# Altium footprint library MLACHP_P.PCBLIB: 129 footprints (part 5 of 9)
Each footprint in its own frame and in the unit in brackets; x right, y up, seen from the top. Pads: shape width x height; smd on the part's side, far side on the other; paste and mask are expansions set on the pad; w line width, h text height; cw(c..) or ccw(c..) is an arc to the next point about the centre after c.
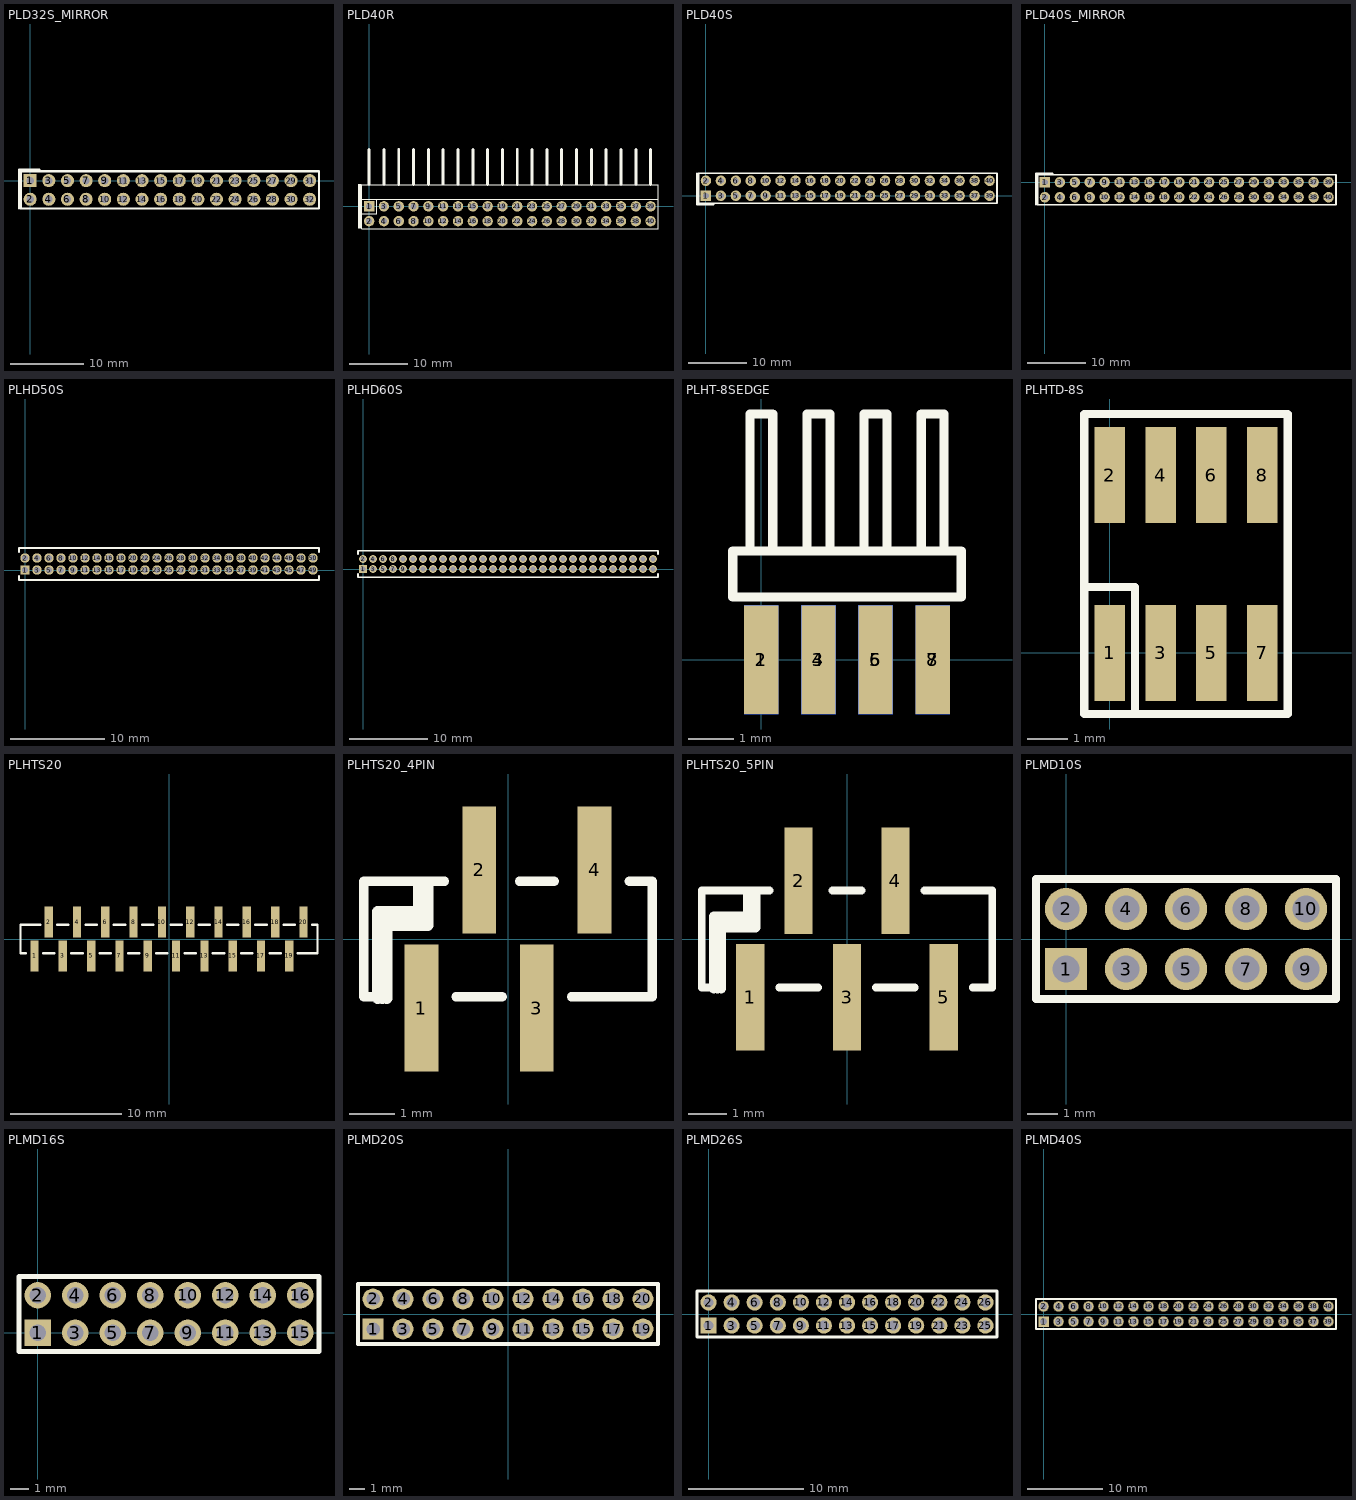
[diagram p4: the footprints below, top view; thin cyan lines are the x and y axes]

## PLD32S_MIRROR [mil]
pads (32):
  rect 70x70 hole 39.37: 1(0,0)
  round 70 hole 39.37: 2(0,-100) 3(100,0) 4(100,-100) 5(200,0) 6(200,-100) 7(300,0) 8(300,-100) 9(400,0) 10(400,-100) 11(500,0) 12(500,-100) 13(600,0) 14(600,-100) 15(700,0) 16(700,-100) 17(800,0) 18(800,-100) 19(900,0) 20(900,-100) 21(1000,0) 22(1000,-100) 23(1100,0) 24(1100,-100) 25(1200,0) 26(1200,-100) 27(1300,0) 28(1300,-100) 29(1400,0) 30(1400,-100) 31(1500,0) 32(1500,-100)
TopOverlay:
  lines w12: -60,-150 -60,60 50,60 ; -50,-150 1550,-150 1550,50 -50,50 -50,-150
3D body: height 455, standoff -120, extent -14,-14 14,14
3D body: height 455, standoff -120, extent 86,-14 114,14
3D body: height 455, standoff -120, extent 186,-14 214,14
3D body: height 455, standoff -120, extent 286,-14 314,14
3D body: height 455, standoff -120, extent 386,-14 414,14
3D body: height 455, standoff -120, extent 486,-14 514,14
3D body: height 455, standoff -120, extent 586,-14 614,14
3D body: height 455, standoff -120, extent 686,-14 714,14
3D body: height 455, standoff -120, extent 786,-14 814,14
3D body: height 455, standoff -120, extent 886,-14 914,14
3D body: height 455, standoff -120, extent 986,-14 1014,14
3D body: height 455, standoff -120, extent 1086,-14 1114,14
3D body: height 455, standoff -120, extent 1186,-14 1214,14
3D body: height 455, standoff -120, extent 1286,-14 1314,14
3D body: height 455, standoff -120, extent 1386,-14 1414,14
3D body: height 455, standoff -120, extent 1486,-14 1514,14
3D body: height 455, standoff -120, extent 1486,-114 1514,-86
3D body: height 455, standoff -120, extent 1386,-114 1414,-86
3D body: height 455, standoff -120, extent 1286,-114 1314,-86
3D body: height 455, standoff -120, extent 1186,-114 1214,-86
3D body: height 455, standoff -120, extent 1086,-114 1114,-86
3D body: height 455, standoff -120, extent 986,-114 1014,-86
3D body: height 455, standoff -120, extent 886,-114 914,-86
3D body: height 455, standoff -120, extent 786,-114 814,-86
3D body: height 455, standoff -120, extent 686,-114 714,-86
3D body: height 455, standoff -120, extent 586,-114 614,-86
3D body: height 455, standoff -120, extent 486,-114 514,-86
3D body: height 455, standoff -120, extent 386,-114 414,-86
3D body: height 455, standoff -120, extent 286,-114 314,-86
3D body: height 455, standoff -120, extent 186,-114 214,-86
3D body: height 455, standoff -120, extent 86,-114 114,-86
3D body: height 455, standoff -120, extent -14,-114 14,-86
3D body: height 100, standoff 0, extent -50,-150 1550,50

## PLD40R [mil]
pads (40):
  rect 70x70 hole 40: 1(0,0)
  round 70 hole 40: 2(0,-100) 3(100,0) 4(100,-100) 5(200,0) 6(200,-100) 7(300,0) 8(300,-100) 9(400,0) 10(400,-100) 11(500,0) 12(500,-100) 13(600,0) 14(600,-100) 15(700,0) 16(700,-100) 17(800,0) 18(800,-100) 19(900,0) 20(900,-100) 21(1000,0) 22(1000,-100) 23(1100,0) 24(1100,-100) 25(1200,0) 26(1200,-100) 27(1300,0) 28(1300,-100) 29(1400,0) 30(1400,-100) 31(1500,0) 32(1500,-100) 33(1600,0) 34(1600,-100) 35(1700,0) 36(1700,-100) 37(1800,0) 38(1800,-100) 39(1900,0) 40(1900,-100)
TopOverlay:
  rectangle: -75,-150 -50,150
  lines w8: -51.18,147.24 1948.82,147.24 ; -50,-50 50,-50 50,45 ; -50,50 -50,-150 1950,-150 1950,47.24 ; -50,147.24 -50,47.24 1950,47.24 ; 1950,147.24 1950,47.24
  lines w20: 0,147.24 0,384.25 ; 100,147.24 100,384.25 ; 200,147.24 200,384.25 ; 300,147.24 300,384.25 ; 400,147.24 400,384.25 ; 500,150 500,384.25 ; 600,147.24 600,384.25 ; 700,147.24 700,384.25 ; 800,147.24 800,384.25 ; 900,147.24 900,384.25 ; 1000,147.24 1000,384.25 ; 1100,147.24 1100,384.25 ; 1200,147.24 1200,384.25 ; 1300,147.24 1300,384.25 ; 1400,150 1400,384.25 ; 1500,147.24 1500,384.25 ; 1600,147.24 1600,384.25 ; 1700,147.24 1700,384.25 ; 1800,147.24 1800,384.25 ; 1900,147.24 1900,384.25
3D body: height 162.6, standoff -118.11, extent 787.4,-112.6 812.6,-87.4
3D body: height 162.6, standoff 137.4, extent 787.4,-112.6 812.6,384.25
3D body: height 162.6, standoff -118.11, extent 1887.4,-112.6 1912.6,-87.4
3D body: height 162.6, standoff 137.4, extent 1887.4,-112.6 1912.6,384.25
3D body: height 162.6, standoff -118.11, extent 1787.4,-112.6 1812.6,-87.4
3D body: height 162.6, standoff 137.4, extent 1787.4,-112.6 1812.6,384.25
3D body: height 162.6, standoff -118.11, extent 1687.4,-112.6 1712.6,-87.4
3D body: height 162.6, standoff 137.4, extent 1687.4,-112.6 1712.6,384.25
3D body: height 162.6, standoff -118.11, extent 1587.4,-112.6 1612.6,-87.4
3D body: height 162.6, standoff 137.4, extent 1587.4,-112.6 1612.6,384.25
3D body: height 162.6, standoff -118.11, extent 1487.4,-112.6 1512.6,-87.4
3D body: height 162.6, standoff 137.4, extent 1487.4,-112.6 1512.6,384.25
3D body: height 162.6, standoff -118.11, extent 1387.4,-112.6 1412.6,-87.4
3D body: height 162.6, standoff 137.4, extent 1387.4,-112.6 1412.6,384.25
3D body: height 162.6, standoff -118.11, extent 1287.4,-112.6 1312.6,-87.4
3D body: height 162.6, standoff 137.4, extent 1287.4,-112.6 1312.6,384.25
3D body: height 162.6, standoff -118.11, extent 1187.4,-112.6 1212.6,-87.4
3D body: height 162.6, standoff 137.4, extent 1187.4,-112.6 1212.6,384.25
3D body: height 162.6, standoff -118.11, extent 1087.4,-112.6 1112.6,-87.4
3D body: height 162.6, standoff 137.4, extent 1087.4,-112.6 1112.6,384.25
3D body: height 162.6, standoff -118.11, extent 987.4,-112.6 1012.6,-87.4
3D body: height 162.6, standoff 137.4, extent 987.4,-112.6 1012.6,384.25
3D body: height 162.6, standoff -118.11, extent 887.4,-112.6 912.6,-87.4
3D body: height 162.6, standoff 137.4, extent 887.4,-112.6 912.6,384.25
3D body: height 162.6, standoff -118.11, extent 687.4,-112.6 712.6,-87.4
3D body: height 162.6, standoff 137.4, extent 687.4,-112.6 712.6,384.25
3D body: height 162.6, standoff -118.11, extent 587.4,-112.6 612.6,-87.4
3D body: height 162.6, standoff 137.4, extent 587.4,-112.6 612.6,384.25
3D body: height 162.6, standoff -118.11, extent 487.4,-112.6 512.6,-87.4
3D body: height 162.6, standoff 137.4, extent 487.4,-112.6 512.6,384.25
3D body: height 162.6, standoff -118.11, extent 387.4,-112.6 412.6,-87.4
3D body: height 162.6, standoff 137.4, extent 387.4,-112.6 412.6,384.25
3D body: height 162.6, standoff -118.11, extent 387.4,-112.6 412.6,-87.4
3D body: height 162.6, standoff 137.4, extent 387.4,-112.6 412.6,384.25
3D body: height 162.6, standoff -118.11, extent 287.4,-112.6 312.6,-87.4
3D body: height 162.6, standoff 137.4, extent 287.4,-112.6 312.6,384.25
3D body: height 162.6, standoff -118.11, extent 187.4,-112.6 212.6,-87.4
3D body: height 162.6, standoff 137.4, extent 187.4,-112.6 212.6,384.25
3D body: height 162.6, standoff -118.11, extent 87.4,-112.6 112.6,-87.4
3D body: height 162.6, standoff 137.4, extent 87.4,-112.6 112.6,384.25
3D body: height 162.6, standoff 137.4, extent -12.6,-112.6 12.6,384.25
3D body: height 162.6, standoff -118.11, extent -12.6,-112.6 12.6,-87.4
3D body: height 62.6, standoff 37.4, extent -12.6,-12.6 12.6,384.25
3D body: height 200, standoff 0, extent -50,47.24 1950,147.24
3D body: height 62.6, standoff -118.11, extent -12.6,-12.6 12.6,12.6
3D body: height 62.6, standoff -118.11, extent 87.4,-12.6 112.6,12.6
3D body: height 62.6, standoff 37.4, extent 87.4,-12.6 112.6,384.25
3D body: height 62.6, standoff -118.11, extent 187.4,-12.6 212.6,12.6
3D body: height 62.6, standoff 37.4, extent 187.4,-12.6 212.6,384.25
3D body: height 62.6, standoff -118.11, extent 287.4,-12.6 312.6,12.6
3D body: height 62.6, standoff 37.4, extent 287.4,-12.6 312.6,384.25
3D body: height 62.6, standoff -118.11, extent 387.4,-12.6 412.6,12.6
3D body: height 62.6, standoff 37.4, extent 387.4,-12.6 412.6,384.25
3D body: height 62.6, standoff -118.11, extent 487.4,-12.6 512.6,12.6
3D body: height 62.6, standoff 37.4, extent 487.4,-12.6 512.6,384.25
3D body: height 62.6, standoff -118.11, extent 587.4,-12.6 612.6,12.6
3D body: height 62.6, standoff 37.4, extent 587.4,-12.6 612.6,384.25
3D body: height 62.6, standoff -118.11, extent 687.4,-12.6 712.6,12.6
3D body: height 62.6, standoff 37.4, extent 687.4,-12.6 712.6,384.25
3D body: height 62.6, standoff -118.11, extent 787.4,-12.6 812.6,12.6
3D body: height 62.6, standoff 37.4, extent 787.4,-12.6 812.6,384.25
3D body: height 62.6, standoff -118.11, extent 887.4,-12.6 912.6,12.6
3D body: height 62.6, standoff 37.4, extent 887.4,-12.6 912.6,384.25
3D body: height 62.6, standoff -118.11, extent 987.4,-12.6 1012.6,12.6
3D body: height 62.6, standoff 37.4, extent 987.4,-12.6 1012.6,384.25
3D body: height 62.6, standoff -118.11, extent 1087.4,-12.6 1112.6,12.6
3D body: height 62.6, standoff 37.4, extent 1087.4,-12.6 1112.6,384.25
3D body: height 62.6, standoff -118.11, extent 1187.4,-12.6 1212.6,12.6
3D body: height 62.6, standoff 37.4, extent 1187.4,-12.6 1212.6,384.25
3D body: height 62.6, standoff -118.11, extent 1287.4,-12.6 1312.6,12.6
3D body: height 62.6, standoff 37.4, extent 1287.4,-12.6 1312.6,384.25
3D body: height 62.6, standoff -118.11, extent 1387.4,-12.6 1412.6,12.6
3D body: height 62.6, standoff 37.4, extent 1387.4,-12.6 1412.6,384.25
3D body: height 62.6, standoff -118.11, extent 1487.4,-12.6 1512.6,12.6
3D body: height 62.6, standoff 37.4, extent 1487.4,-12.6 1512.6,384.25
3D body: height 62.6, standoff -118.11, extent 1587.4,-12.6 1612.6,12.6
3D body: height 62.6, standoff 37.4, extent 1587.4,-12.6 1612.6,384.25
3D body: height 62.6, standoff -118.11, extent 1687.4,-12.6 1712.6,12.6
3D body: height 62.6, standoff 37.4, extent 1687.4,-12.6 1712.6,384.25
3D body: height 62.6, standoff -118.11, extent 1787.4,-12.6 1812.6,12.6
3D body: height 62.6, standoff 37.4, extent 1787.4,-12.6 1812.6,384.25
3D body: height 62.6, standoff -118.11, extent 1887.4,-12.6 1912.6,12.6
3D body: height 62.6, standoff 37.4, extent 1887.4,-12.6 1912.6,384.25

## PLD40S [mil]
pads (40):
  rect 70x70 hole 39.37: 1(0,0)
  round 70 hole 39.37: 2(0,100) 3(100,0) 4(100,100) 5(200,0) 6(200,100) 7(300,0) 8(300,100) 9(400,0) 10(400,100) 11(500,0) 12(500,100) 13(600,0) 14(600,100) 15(700,0) 16(700,100) 17(800,0) 18(800,100) 19(900,0) 20(900,100) 21(1000,0) 22(1000,100) 23(1100,0) 24(1100,100) 25(1200,0) 26(1200,100) 27(1300,0) 28(1300,100) 29(1400,0) 30(1400,100) 31(1500,0) 32(1500,100) 33(1600,0) 34(1600,100) 35(1700,0) 36(1700,100) 37(1800,0) 38(1800,100) 39(1900,0) 40(1900,100)
TopOverlay:
  lines w12: -60,150 -60,-60 50,-60 50,-50 ; -50,-50 -50,150 1950,150 1950,-50 -50,-50
3D body: height 100, standoff 0, extent -50,-50 1950,150
3D body: height 455, standoff -120, extent -14,-14 14,14
3D body: height 455, standoff -120, extent 86,-14 114,14
3D body: height 455, standoff -120, extent 186,-14 214,14
3D body: height 455, standoff -120, extent 286,-14 314,14
3D body: height 455, standoff -120, extent 386,-14 414,14
3D body: height 455, standoff -120, extent 486,-14 514,14
3D body: height 455, standoff -120, extent 586,-14 614,14
3D body: height 455, standoff -120, extent 686,-14 714,14
3D body: height 455, standoff -120, extent 786,-14 814,14
3D body: height 455, standoff -120, extent 886,-14 914,14
3D body: height 455, standoff -120, extent 986,-14 1014,14
3D body: height 455, standoff -120, extent 1086,-14 1114,14
3D body: height 455, standoff -120, extent 1186,-14 1214,14
3D body: height 455, standoff -120, extent 1286,-14 1314,14
3D body: height 455, standoff -120, extent 1386,-14 1414,14
3D body: height 455, standoff -120, extent 1486,-14 1514,14
3D body: height 455, standoff -120, extent 1486,86 1514,114
3D body: height 455, standoff -120, extent 1386,86 1414,114
3D body: height 455, standoff -120, extent 1286,86 1314,114
3D body: height 455, standoff -120, extent 1186,86 1214,114
3D body: height 455, standoff -120, extent 1086,86 1114,114
3D body: height 455, standoff -120, extent 986,86 1014,114
3D body: height 455, standoff -120, extent 886,86 914,114
3D body: height 455, standoff -120, extent 786,86 814,114
3D body: height 455, standoff -120, extent 686,86 714,114
3D body: height 455, standoff -120, extent 586,86 614,114
3D body: height 455, standoff -120, extent 486,86 514,114
3D body: height 455, standoff -120, extent 386,86 414,114
3D body: height 455, standoff -120, extent 286,86 314,114
3D body: height 455, standoff -120, extent 186,86 214,114
3D body: height 455, standoff -120, extent 86,86 114,114
3D body: height 455, standoff -120, extent -14,86 14,114
3D body: height 455, standoff -120, extent 1586,86 1614,114
3D body: height 455, standoff -120, extent 1686,86 1714,114
3D body: height 455, standoff -120, extent 1786,86 1814,114
3D body: height 455, standoff -120, extent 1886,86 1914,114
3D body: height 455, standoff -120, extent 1886,-14 1914,14
3D body: height 455, standoff -120, extent 1786,-14 1814,14
3D body: height 455, standoff -120, extent 1686,-14 1714,14
3D body: height 455, standoff -120, extent 1586,-14 1614,14

## PLD40S_MIRROR [mil]
pads (40):
  rect 70x70 hole 39.37: 1(0,0)
  round 70 hole 39.37: 2(0,-100) 3(100,0) 4(100,-100) 5(200,0) 6(200,-100) 7(300,0) 8(300,-100) 9(400,0) 10(400,-100) 11(500,0) 12(500,-100) 13(600,0) 14(600,-100) 15(700,0) 16(700,-100) 17(800,0) 18(800,-100) 19(900,0) 20(900,-100) 21(1000,0) 22(1000,-100) 23(1100,0) 24(1100,-100) 25(1200,0) 26(1200,-100) 27(1300,0) 28(1300,-100) 29(1400,0) 30(1400,-100) 31(1500,0) 32(1500,-100) 33(1600,0) 34(1600,-100) 35(1700,0) 36(1700,-100) 37(1800,0) 38(1800,-100) 39(1900,0) 40(1900,-100)
TopOverlay:
  lines w12: -60,-150 -60,60 50,60 50,50 ; -50,-150 -50,50 1950,50 1950,-150 -50,-150
3D body: height 100, standoff 0, extent -50,-150 1950,50
3D body: height 455, standoff -120, extent -14,-114 14,-86
3D body: height 455, standoff -120, extent 86,-114 114,-86
3D body: height 455, standoff -120, extent 186,-114 214,-86
3D body: height 455, standoff -120, extent 286,-114 314,-86
3D body: height 455, standoff -120, extent 386,-114 414,-86
3D body: height 455, standoff -120, extent 486,-114 514,-86
3D body: height 455, standoff -120, extent 586,-114 614,-86
3D body: height 455, standoff -120, extent 686,-114 714,-86
3D body: height 455, standoff -120, extent 786,-114 814,-86
3D body: height 455, standoff -120, extent 886,-114 914,-86
3D body: height 455, standoff -120, extent 986,-114 1014,-86
3D body: height 455, standoff -120, extent 1086,-114 1114,-86
3D body: height 455, standoff -120, extent 1186,-114 1214,-86
3D body: height 455, standoff -120, extent 1286,-114 1314,-86
3D body: height 455, standoff -120, extent 1386,-114 1414,-86
3D body: height 455, standoff -120, extent 1486,-114 1514,-86
3D body: height 455, standoff -120, extent 1486,-14 1514,14
3D body: height 455, standoff -120, extent 1386,-14 1414,14
3D body: height 455, standoff -120, extent 1286,-14 1314,14
3D body: height 455, standoff -120, extent 1186,-14 1214,14
3D body: height 455, standoff -120, extent 1086,-14 1114,14
3D body: height 455, standoff -120, extent 986,-14 1014,14
3D body: height 455, standoff -120, extent 886,-14 914,14
3D body: height 455, standoff -120, extent 786,-14 814,14
3D body: height 455, standoff -120, extent 686,-14 714,14
3D body: height 455, standoff -120, extent 586,-14 614,14
3D body: height 455, standoff -120, extent 486,-14 514,14
3D body: height 455, standoff -120, extent 386,-14 414,14
3D body: height 455, standoff -120, extent 286,-14 314,14
3D body: height 455, standoff -120, extent 186,-14 214,14
3D body: height 455, standoff -120, extent 86,-14 114,14
3D body: height 455, standoff -120, extent -14,-14 14,14
3D body: height 455, standoff -120, extent 1586,-14 1614,14
3D body: height 455, standoff -120, extent 1686,-14 1714,14
3D body: height 455, standoff -120, extent 1786,-14 1814,14
3D body: height 455, standoff -120, extent 1886,-14 1914,14
3D body: height 455, standoff -120, extent 1886,-114 1914,-86
3D body: height 455, standoff -120, extent 1786,-114 1814,-86
3D body: height 455, standoff -120, extent 1686,-114 1714,-86
3D body: height 455, standoff -120, extent 1586,-114 1614,-86

## PLHD50S [mm]
pads (50):
  rect 1x1 hole 0.6: 1(0,0)
  round 1 hole 0.6: 2(0,1.27) 3(1.27,0) 4(1.27,1.27) 5(2.54,0) 6(2.54,1.27) 7(3.81,0) 8(3.81,1.27) 9(5.08,0) 10(5.08,1.27) 11(6.35,0) 12(6.35,1.27) 13(7.62,0) 14(7.62,1.27) 15(8.89,0) 16(8.89,1.27) 17(10.16,0) 18(10.16,1.27) 19(11.43,0) 20(11.43,1.27) 21(12.7,0) 22(12.7,1.27) 23(13.97,0) 24(13.97,1.27) 25(15.24,0) 26(15.24,1.27) 27(16.51,0) 28(16.51,1.27) 29(17.78,0) 30(17.78,1.27) 31(19.05,0) 32(19.05,1.27) 33(20.32,0) 34(20.32,1.27) 35(21.59,0) 36(21.59,1.27) 37(22.86,0) 38(22.86,1.27) 39(24.13,0) 40(24.13,1.27) 41(25.4,0) 42(25.4,1.27) 43(26.67,0) 44(26.67,1.27) 45(27.94,0) 46(27.94,1.27) 47(29.21,0) 48(29.21,1.27) 49(30.48,0) 50(30.48,1.27)
TopOverlay:
  lines w0.203: -0.635,-0.635 -0.635,-1.065 31.115,-1.065 31.115,-0.635 ; -0.635,1.905 -0.635,2.335 31.115,2.335 31.115,1.905
3D body: height 1, standoff 0, extent -0.635,-1.065 31.115,2.335
3D body: height 6.3, standoff -2.3, extent -0.2,-0.2 0.2,0.2
3D body: height 6.3, standoff -2.3, extent -0.2,1.07 0.2,1.47
3D body: height 6.3, standoff -2.3, extent 1.07,-0.2 1.47,0.2
3D body: height 6.3, standoff -2.3, extent 1.07,1.07 1.47,1.47
3D body: height 6.3, standoff -2.3, extent 2.34,-0.2 2.74,0.2
3D body: height 6.3, standoff -2.3, extent 2.34,1.07 2.74,1.47
3D body: height 6.3, standoff -2.3, extent 3.61,-0.2 4.01,0.2
3D body: height 6.3, standoff -2.3, extent 3.61,1.07 4.01,1.47
3D body: height 6.3, standoff -2.3, extent 4.88,-0.2 5.28,0.2
3D body: height 6.3, standoff -2.3, extent 4.88,1.07 5.28,1.47
3D body: height 6.3, standoff -2.3, extent 6.15,-0.2 6.55,0.2
3D body: height 6.3, standoff -2.3, extent 6.15,1.07 6.55,1.47
3D body: height 6.3, standoff -2.3, extent 7.42,1.07 7.82,1.47
3D body: height 6.3, standoff -2.3, extent 7.42,-0.2 7.82,0.2
3D body: height 6.3, standoff -2.3, extent 8.69,1.07 9.09,1.47
3D body: height 6.3, standoff -2.3, extent 8.69,-0.2 9.09,0.2
3D body: height 6.3, standoff -2.3, extent 9.96,1.07 10.36,1.47
3D body: height 6.3, standoff -2.3, extent 9.96,-0.2 10.36,0.2
3D body: height 6.3, standoff -2.3, extent 11.23,-0.2 11.63,0.2
3D body: height 6.3, standoff -2.3, extent 11.23,1.07 11.63,1.47
3D body: height 6.3, standoff -2.3, extent 12.5,1.07 12.9,1.47
3D body: height 6.3, standoff -2.3, extent 12.5,-0.2 12.9,0.2
3D body: height 6.3, standoff -2.3, extent 13.77,-0.2 14.17,0.2
3D body: height 6.3, standoff -2.3, extent 13.77,1.07 14.17,1.47
3D body: height 6.3, standoff -2.3, extent 15.04,-0.2 15.44,0.2
3D body: height 6.3, standoff -2.3, extent 15.04,1.07 15.44,1.47
3D body: height 6.3, standoff -2.3, extent 16.31,-0.2 16.71,0.2
3D body: height 6.3, standoff -2.3, extent 16.31,1.07 16.71,1.47
3D body: height 6.3, standoff -2.3, extent 17.58,-0.2 17.98,0.2
3D body: height 6.3, standoff -2.3, extent 17.58,1.07 17.98,1.47
3D body: height 6.3, standoff -2.3, extent 18.85,-0.2 19.25,0.2
3D body: height 6.3, standoff -2.3, extent 18.85,1.07 19.25,1.47
3D body: height 6.3, standoff -2.3, extent 20.12,-0.2 20.52,0.2
3D body: height 6.3, standoff -2.3, extent 20.12,1.07 20.52,1.47
3D body: height 6.3, standoff -2.3, extent 21.39,-0.2 21.79,0.2
3D body: height 6.3, standoff -2.3, extent 21.39,1.07 21.79,1.47
3D body: height 6.3, standoff -2.3, extent 22.66,-0.2 23.06,0.2
3D body: height 6.3, standoff -2.3, extent 22.66,1.07 23.06,1.47
3D body: height 6.3, standoff -2.3, extent 23.93,-0.2 24.33,0.2
3D body: height 6.3, standoff -2.3, extent 23.93,1.07 24.33,1.47
3D body: height 6.3, standoff -2.3, extent 25.2,-0.2 25.6,0.2
3D body: height 6.3, standoff -2.3, extent 25.2,1.07 25.6,1.47
3D body: height 6.3, standoff -2.3, extent 26.47,-0.2 26.87,0.2
3D body: height 6.3, standoff -2.3, extent 26.47,1.07 26.87,1.47
3D body: height 6.3, standoff -2.3, extent 27.74,-0.2 28.14,0.2
3D body: height 6.3, standoff -2.3, extent 27.74,1.07 28.14,1.47
3D body: height 6.3, standoff -2.3, extent 29.01,-0.2 29.41,0.2
3D body: height 6.3, standoff -2.3, extent 29.01,1.07 29.41,1.47
3D body: height 6.3, standoff -2.3, extent 30.28,-0.2 30.68,0.2
3D body: height 6.3, standoff -2.3, extent 30.28,1.07 30.68,1.47

## PLHD60S [mm]
pads (60):
  rect 1x1 hole 0.6: 1(0,0)
  round 1 hole 0.6: 2(0,1.27) 3(1.27,0) 4(1.27,1.27) 5(2.54,0) 6(2.54,1.27) 7(3.81,0) 8(3.81,1.27) 9(5.08,0) 10(5.08,1.27) 11(6.35,0) 12(6.35,1.27) 13(7.62,0) 14(7.62,1.27) 15(8.89,0) 16(8.89,1.27) 17(10.16,0) 18(10.16,1.27) 19(11.43,0) 20(11.43,1.27) 21(12.7,0) 22(12.7,1.27) 23(13.97,0) 24(13.97,1.27) 25(15.24,0) 26(15.24,1.27) 27(16.51,0) 28(16.51,1.27) 29(17.78,0) 30(17.78,1.27) 31(19.05,0) 32(19.05,1.27) 33(20.32,0) 34(20.32,1.27) 35(21.59,0) 36(21.59,1.27) 37(22.86,0) 38(22.86,1.27) 39(24.13,0) 40(24.13,1.27) 41(25.4,0) 42(25.4,1.27) 43(26.67,0) 44(26.67,1.27) 45(27.94,0) 46(27.94,1.27) 47(29.21,0) 48(29.21,1.27) 49(30.48,0) 50(30.48,1.27) 51(31.75,0) 52(31.75,1.27) 53(33.02,0) 54(33.02,1.27) 55(34.29,0) 56(34.29,1.27) 57(35.56,0) 58(35.56,1.27) 59(36.83,0) 60(36.83,1.27)
TopOverlay:
  lines w0.203: -0.635,-0.635 -0.635,-1.065 37.465,-1.065 37.465,-0.635 ; -0.635,1.905 -0.635,2.335 37.465,2.335 37.465,1.905
3D body: height 1, standoff 0, extent -0.635,-1.065 37.465,2.335
3D body: height 6.3, standoff -2.3, extent -0.2,-0.2 0.2,0.2
3D body: height 6.3, standoff -2.3, extent -0.2,1.07 0.2,1.47
3D body: height 6.3, standoff -2.3, extent 1.07,-0.2 1.47,0.2
3D body: height 6.3, standoff -2.3, extent 1.07,1.07 1.47,1.47
3D body: height 6.3, standoff -2.3, extent 2.34,-0.2 2.74,0.2
3D body: height 6.3, standoff -2.3, extent 2.34,1.07 2.74,1.47
3D body: height 6.3, standoff -2.3, extent 3.61,-0.2 4.01,0.2
3D body: height 6.3, standoff -2.3, extent 3.61,1.07 4.01,1.47
3D body: height 6.3, standoff -2.3, extent 4.88,-0.2 5.28,0.2
3D body: height 6.3, standoff -2.3, extent 4.88,1.07 5.28,1.47
3D body: height 6.3, standoff -2.3, extent 6.15,-0.2 6.55,0.2
3D body: height 6.3, standoff -2.3, extent 6.15,1.07 6.55,1.47
3D body: height 6.3, standoff -2.3, extent 7.42,1.07 7.82,1.47
3D body: height 6.3, standoff -2.3, extent 7.42,-0.2 7.82,0.2
3D body: height 6.3, standoff -2.3, extent 8.69,1.07 9.09,1.47
3D body: height 6.3, standoff -2.3, extent 8.69,-0.2 9.09,0.2
3D body: height 6.3, standoff -2.3, extent 9.96,1.07 10.36,1.47
3D body: height 6.3, standoff -2.3, extent 9.96,-0.2 10.36,0.2
3D body: height 6.3, standoff -2.3, extent 11.23,-0.2 11.63,0.2
3D body: height 6.3, standoff -2.3, extent 11.23,1.07 11.63,1.47
3D body: height 6.3, standoff -2.3, extent 12.5,1.07 12.9,1.47
3D body: height 6.3, standoff -2.3, extent 12.5,-0.2 12.9,0.2
3D body: height 6.3, standoff -2.3, extent 13.77,-0.2 14.17,0.2
3D body: height 6.3, standoff -2.3, extent 13.77,1.07 14.17,1.47
3D body: height 6.3, standoff -2.3, extent 15.04,-0.2 15.44,0.2
3D body: height 6.3, standoff -2.3, extent 15.04,1.07 15.44,1.47
3D body: height 6.3, standoff -2.3, extent 16.31,-0.2 16.71,0.2
3D body: height 6.3, standoff -2.3, extent 16.31,1.07 16.71,1.47
3D body: height 6.3, standoff -2.3, extent 17.58,-0.2 17.98,0.2
3D body: height 6.3, standoff -2.3, extent 17.58,1.07 17.98,1.47
3D body: height 6.3, standoff -2.3, extent 18.85,-0.2 19.25,0.2
3D body: height 6.3, standoff -2.3, extent 18.85,1.07 19.25,1.47
3D body: height 6.3, standoff -2.3, extent 20.12,-0.2 20.52,0.2
3D body: height 6.3, standoff -2.3, extent 20.12,1.07 20.52,1.47
3D body: height 6.3, standoff -2.3, extent 21.39,-0.2 21.79,0.2
3D body: height 6.3, standoff -2.3, extent 21.39,1.07 21.79,1.47
3D body: height 6.3, standoff -2.3, extent 22.66,-0.2 23.06,0.2
3D body: height 6.3, standoff -2.3, extent 22.66,1.07 23.06,1.47
3D body: height 6.3, standoff -2.3, extent 23.93,-0.2 24.33,0.2
3D body: height 6.3, standoff -2.3, extent 23.93,1.07 24.33,1.47
3D body: height 6.3, standoff -2.3, extent 25.2,-0.2 25.6,0.2
3D body: height 6.3, standoff -2.3, extent 25.2,1.07 25.6,1.47
3D body: height 6.3, standoff -2.3, extent 26.47,-0.2 26.87,0.2
3D body: height 6.3, standoff -2.3, extent 26.47,1.07 26.87,1.47
3D body: height 6.3, standoff -2.3, extent 27.74,-0.2 28.14,0.2
3D body: height 6.3, standoff -2.3, extent 27.74,1.07 28.14,1.47
3D body: height 6.3, standoff -2.3, extent 29.01,-0.2 29.41,0.2
3D body: height 6.3, standoff -2.3, extent 29.01,1.07 29.41,1.47
3D body: height 6.3, standoff -2.3, extent 30.28,-0.2 30.68,0.2
3D body: height 6.3, standoff -2.3, extent 30.28,1.07 30.68,1.47
3D body: height 6.3, standoff -2.3, extent 31.55,-0.2 31.95,0.2
3D body: height 6.3, standoff -2.3, extent 31.55,1.07 31.95,1.47
3D body: height 6.3, standoff -2.3, extent 32.82,-0.2 33.22,0.2
3D body: height 6.3, standoff -2.3, extent 32.82,1.07 33.22,1.47
3D body: height 6.3, standoff -2.3, extent 34.09,-0.2 34.49,0.2
3D body: height 6.3, standoff -2.3, extent 34.09,1.07 34.49,1.47
3D body: height 6.3, standoff -2.3, extent 35.36,-0.2 35.76,0.2
3D body: height 6.3, standoff -2.3, extent 35.36,1.07 35.76,1.47
3D body: height 6.3, standoff -2.3, extent 36.63,-0.2 37.03,0.2
3D body: height 6.3, standoff -2.3, extent 36.63,1.07 37.03,1.47

## PLHT-8SEDGE [mil]
pads (8):
  rect 30x95 smd: 1(0,0) 3(50,0) 5(100,0) 7(150,0)
  rect 30x95 smd far side: 2(0,0) 4(50,0) 6(100,0) 8(150,0)
TopOverlay:
  lines w8: -10,95 -10,215 10,215 10,95 ; 40,95 40,215 60,215 60,95 ; 90,95 90,215 110,215 110,95 ; 140,95 140,215 160,215 160,95 ; -25,55 -25,95 175,95 175,55 -25,55

## PLHTD-8S [mm]
pads (8):
  rect 0.76x2.4 smd: 1(0,0) 2(0,4.445) 3(1.27,0) 4(1.27,4.445) 5(2.54,0) 6(2.54,4.445) 7(3.81,0) 8(3.81,4.445)
TopOverlay:
  lines w0.203: -0.635,1.651 0.635,1.651 0.635,-1.524 ; -0.635,-1.524 -0.635,5.969 4.445,5.969 4.445,-1.524 -0.635,-1.524

## PLHTS20 [mm]
pads (20):
  rect 0.74x2.795 smd: 1(-12.065,-1.524) 2(-10.795,1.524) 3(-9.525,-1.524) 4(-8.255,1.524) 5(-6.985,-1.524) 6(-5.715,1.524) 7(-4.445,-1.524) 8(-3.175,1.524) 9(-1.905,-1.524) 10(-0.635,1.524) 11(0.635,-1.524) 12(1.905,1.524) 13(3.175,-1.524) 14(4.445,1.524) 15(5.715,-1.524) 16(6.985,1.524) 17(8.255,-1.524) 18(9.525,1.524) 19(10.795,-1.524) 20(12.065,1.524)
TopOverlay:
  lines w0.203: -12.827,-1.27 -13.335,-1.27 -13.335,1.27 -11.557,1.27 ; -11.303,-1.27 -10.287,-1.27 ; -10.033,1.27 -9.017,1.27 ; -8.763,-1.27 -7.747,-1.27 ; -7.493,1.27 -6.477,1.27 ; -6.223,-1.27 -5.207,-1.27 ; -4.953,1.27 -3.937,1.27 ; -3.683,-1.27 -2.667,-1.27 ; -2.413,1.27 -1.397,1.27 ; -1.143,-1.27 -0.127,-1.27 ; 0.127,1.27 1.143,1.27 ; 1.397,-1.27 2.413,-1.27 ; 2.667,1.27 3.683,1.27 ; 3.937,-1.27 4.953,-1.27 ; 5.207,1.27 6.223,1.27 ; 6.477,-1.27 7.493,-1.27 ; 7.747,1.27 8.763,1.27 ; 9.017,-1.27 10.033,-1.27 ; 10.287,1.27 11.303,1.27 ; 11.557,-1.27 13.335,-1.27 13.335,1.27 12.827,1.27
3D body: height 5.77, standoff 0, extent -12.319,-0.254 -11.811,0.254
3D body: height 5.77, standoff 0, extent -9.779,-0.254 -9.271,0.254
3D body: height 5.77, standoff 0, extent -7.239,-0.254 -6.731,0.254
3D body: height 5.77, standoff 0, extent -4.699,-0.254 -4.191,0.254
3D body: height 5.77, standoff 0, extent -2.159,-0.254 -1.651,0.254
3D body: height 5.77, standoff 0, extent 0.381,-0.254 0.889,0.254
3D body: height 5.77, standoff 0, extent 2.921,-0.254 3.429,0.254
3D body: height 5.77, standoff 0, extent 5.461,-0.254 5.969,0.254
3D body: height 5.77, standoff 0, extent 8.001,-0.254 8.509,0.254
3D body: height 5.77, standoff 0, extent 10.541,-0.254 11.049,0.254
3D body: height 5.77, standoff 0, extent 11.811,-0.254 12.319,0.254
3D body: height 5.77, standoff 0, extent 9.271,-0.254 9.779,0.254
3D body: height 5.77, standoff 0, extent 6.731,-0.254 7.239,0.254
3D body: height 5.77, standoff 0, extent 4.191,-0.254 4.699,0.254
3D body: height 5.77, standoff 0, extent 1.651,-0.254 2.159,0.254
3D body: height 5.77, standoff 0, extent -11.049,-0.254 -10.541,0.254
3D body: height 5.77, standoff 0, extent -8.509,-0.254 -8.001,0.254
3D body: height 5.77, standoff 0, extent -5.969,-0.254 -5.461,0.254
3D body: height 5.77, standoff 0, extent -3.429,-0.254 -2.921,0.254
3D body: height 5.77, standoff 0, extent -0.889,-0.254 -0.381,0.254
3D body: height 2.97, standoff 1.27, extent -12.7,-1.25 12.7,1.25
3D body: height 0.46, standoff 0, extent -11.049,-0.254 -10.541,2.54
3D body: height 0.46, standoff 0, extent -8.509,-0.254 -8.001,2.54
3D body: height 0.46, standoff 0, extent -5.969,-0.254 -5.461,2.54
3D body: height 0.46, standoff 0, extent -3.429,-0.254 -2.921,2.54
3D body: height 0.46, standoff 0, extent -0.889,-0.254 -0.381,2.54
3D body: height 0.46, standoff 0, extent 1.651,-0.254 2.159,2.54
3D body: height 0.46, standoff 0, extent 4.191,-0.254 4.699,2.54
3D body: height 0.46, standoff 0, extent 6.731,-0.254 7.239,2.54
3D body: height 0.46, standoff 0, extent 9.271,-0.254 9.779,2.54
3D body: height 0.46, standoff 0, extent 11.811,-0.254 12.319,2.54
3D body: height 0.46, standoff 0, extent 10.541,-2.54 11.049,0.254
3D body: height 0.46, standoff 0, extent 8.001,-2.54 8.509,0.254
3D body: height 0.46, standoff 0, extent 5.461,-2.54 5.969,0.254
3D body: height 0.46, standoff 0, extent 2.921,-2.54 3.429,0.254
3D body: height 0.46, standoff 0, extent 0.381,-2.54 0.889,0.254
3D body: height 0.46, standoff 0, extent -2.159,-2.54 -1.651,0.254
3D body: height 0.46, standoff 0, extent -4.699,-2.54 -4.191,0.254
3D body: height 0.46, standoff 0, extent -7.239,-2.54 -6.731,0.254
3D body: height 0.46, standoff 0, extent -9.779,-2.54 -9.271,0.254
3D body: height 0.46, standoff 0, extent -12.319,-2.54 -11.811,0.254

## PLHTS20_4PIN [mm]
pads (4):
  rect 0.74x2.795 smd: 1(-1.905,-1.524) 2(-0.635,1.524) 3(0.635,-1.524) 4(1.905,1.524)
TopOverlay:
  lines w0.203: -2.667,-1.27 -3.175,-1.27 -3.175,1.27 -1.397,1.27 ; -1.143,-1.27 -0.127,-1.27 ; 0.254,1.27 1.016,1.27 ; 1.397,-1.27 3.175,-1.27 3.175,1.27 2.667,1.27
  lines w0.254: -2.865,-1.3 -2.865,0.6 -1.965,0.6 -1.965,1.2 ; -2.765,-1.3 -2.765,0.4 -1.865,0.4 -1.865,1.2 ; -2.665,-1.3 -2.665,0.3 -1.765,0.3 -1.765,1.2

## PLHTS20_5PIN [mm]
pads (5):
  rect 0.74x2.795 smd: 1(-2.54,-1.524) 2(-1.27,1.524) 3(0,-1.524) 4(1.27,1.524) 5(2.54,-1.524)
TopOverlay:
  lines w0.203: -3.302,-1.27 -3.81,-1.27 -3.81,1.27 -2.032,1.27 ; -1.778,-1.27 -0.762,-1.27 ; -0.381,1.27 0.381,1.27 ; 0.762,-1.27 1.778,-1.27 ; 2.032,1.27 3.81,1.27 3.81,-1.27 3.302,-1.27
  lines w0.254: -3.5,-1.3 -3.5,0.6 -2.6,0.6 -2.6,1.2 ; -3.4,-1.3 -3.4,0.4 -2.5,0.4 -2.5,1.2 ; -3.3,-1.3 -3.3,0.3 -2.4,0.3 -2.4,1.2

## PLMD10S [mm]
pads (10):
  rect 1.4x1.4 hole 0.9: 1(0,-1)
  round 1.4 hole 0.9: 2(0,1) 3(2,-1) 4(2,1) 5(4,-1) 6(4,1) 7(6,-1) 8(6,1) 9(8,-1) 10(8,1)
TopOverlay:
  lines w0.254: -1,-2 -1,2 9,2 9,-2 -1,-2
3D body: height 6, standoff -2.8, extent 7.75,0.75 8.25,1.25
3D body: height 6, standoff -2.8, extent 7.75,-1.25 8.25,-0.75
3D body: height 6, standoff -2.8, extent 5.75,0.75 6.25,1.25
3D body: height 6, standoff -2.8, extent 5.75,-1.25 6.25,-0.75
3D body: height 6, standoff -2.8, extent 3.75,0.75 4.25,1.25
3D body: height 6, standoff -2.8, extent 3.75,-1.25 4.25,-0.75
3D body: height 6, standoff -2.8, extent 1.75,0.75 2.25,1.25
3D body: height 6, standoff -2.8, extent 1.75,-1.25 2.25,-0.75
3D body: height 6, standoff -2.8, extent -0.25,-1.25 0.25,-0.75
3D body: height 6, standoff -2.8, extent -0.25,0.75 0.25,1.25
3D body: height 2, standoff 0, extent -1,-2 9,2

## PLMD16S [mm]
pads (16):
  rect 1.4x1.4 hole 0.9: 1(0,0)
  round 1.4 hole 0.9: 2(0,2) 3(2,0) 4(2,2) 5(4,0) 6(4,2) 7(6,0) 8(6,2) 9(8,0) 10(8,2) 11(10,0) 12(10,2) 13(12,0) 14(12,2) 15(14,0) 16(14,2)
TopOverlay:
  lines w0.254: -1,-1 -1,3 15,3 15,-1 -1,-1
3D body: height 6, standoff -2.8, extent 13.75,1.75 14.25,2.25
3D body: height 6, standoff -2.8, extent 13.75,-0.25 14.25,0.25
3D body: height 6, standoff -2.8, extent 11.75,1.75 12.25,2.25
3D body: height 6, standoff -2.8, extent 11.75,-0.25 12.25,0.25
3D body: height 6, standoff -2.8, extent 9.75,1.75 10.25,2.25
3D body: height 6, standoff -2.8, extent 9.75,-0.25 10.25,0.25
3D body: height 6, standoff -2.8, extent 7.75,1.75 8.25,2.25
3D body: height 6, standoff -2.8, extent 7.75,-0.25 8.25,0.25
3D body: height 6, standoff -2.8, extent 5.75,1.75 6.25,2.25
3D body: height 6, standoff -2.8, extent 5.75,-0.25 6.25,0.25
3D body: height 6, standoff -2.8, extent 3.75,1.75 4.25,2.25
3D body: height 6, standoff -2.8, extent 3.75,-0.25 4.25,0.25
3D body: height 6, standoff -2.8, extent 1.75,1.75 2.25,2.25
3D body: height 6, standoff -2.8, extent 1.75,-0.25 2.25,0.25
3D body: height 6, standoff -2.8, extent -0.25,-0.25 0.25,0.25
3D body: height 6, standoff -2.8, extent -0.25,1.75 0.25,2.25
3D body: height 2, standoff 0, extent -1,-1 15,3

## PLMD20S [mm]
pads (20):
  rect 1.4x1.4 hole 0.9: 1(-9,-1)
  round 1.4 hole 0.9: 2(-9,1) 3(-7,-1) 4(-7,1) 5(-5,-1) 6(-5,1) 7(-3,-1) 8(-3,1) 9(-1,-1) 10(-1,1) 11(1,-1) 12(1,1) 13(3,-1) 14(3,1) 15(5,-1) 16(5,1) 17(7,-1) 18(7,1) 19(9,-1) 20(9,1)
TopOverlay:
  lines w0.254: -10,-2 -10,2 10,2 10,-2 -10,-2
3D body: height 6, standoff -2.8, extent 8.75,0.75 9.25,1.25
3D body: height 6, standoff -2.8, extent 8.75,-1.25 9.25,-0.75
3D body: height 6, standoff -2.8, extent 6.75,0.75 7.25,1.25
3D body: height 6, standoff -2.8, extent 6.75,-1.25 7.25,-0.75
3D body: height 6, standoff -2.8, extent 4.75,0.75 5.25,1.25
3D body: height 6, standoff -2.8, extent 4.75,-1.25 5.25,-0.75
3D body: height 6, standoff -2.8, extent 2.75,0.75 3.25,1.25
3D body: height 6, standoff -2.8, extent 2.75,-1.25 3.25,-0.75
3D body: height 6, standoff -2.8, extent 0.75,0.75 1.25,1.25
3D body: height 6, standoff -2.8, extent 0.75,-1.25 1.25,-0.75
3D body: height 6, standoff -2.8, extent -1.25,0.75 -0.75,1.25
3D body: height 6, standoff -2.8, extent -1.25,-1.25 -0.75,-0.75
3D body: height 6, standoff -2.8, extent -3.25,0.75 -2.75,1.25
3D body: height 6, standoff -2.8, extent -3.25,-1.25 -2.75,-0.75
3D body: height 6, standoff -2.8, extent -5.25,0.75 -4.75,1.25
3D body: height 6, standoff -2.8, extent -5.25,-1.25 -4.75,-0.75
3D body: height 6, standoff -2.8, extent -7.25,0.75 -6.75,1.25
3D body: height 6, standoff -2.8, extent -7.25,-1.25 -6.75,-0.75
3D body: height 6, standoff -2.8, extent -9.25,-1.25 -8.75,-0.75
3D body: height 6, standoff -2.8, extent -9.25,0.75 -8.75,1.25
3D body: height 2, standoff 0, extent -10,-2 10,2

## PLMD26S [mm]
pads (26):
  rect 1.4x1.4 hole 0.9: 1(0,-1)
  round 1.4 hole 0.9: 2(0,1) 3(2,-1) 4(2,1) 5(4,-1) 6(4,1) 7(6,-1) 8(6,1) 9(8,-1) 10(8,1) 11(10,-1) 12(10,1) 13(12,-1) 14(12,1) 15(14,-1) 16(14,1) 17(16,-1) 18(16,1) 19(18,-1) 20(18,1) 21(20,-1) 22(20,1) 23(22,-1) 24(22,1) 25(24,-1) 26(24,1)
TopOverlay:
  lines w0.254: -1,-2 25,-2 25,2 -1,2 -1,-2
3D body: height 2, standoff 0, extent -1,-2 25,2
3D body: height 6, standoff -2.8, extent -0.25,0.75 0.25,1.25
3D body: height 6, standoff -2.8, extent -0.25,-1.25 0.25,-0.75
3D body: height 6, standoff -2.8, extent 1.75,-1.25 2.25,-0.75
3D body: height 6, standoff -2.8, extent 1.75,0.75 2.25,1.25
3D body: height 6, standoff -2.8, extent 3.75,-1.25 4.25,-0.75
3D body: height 6, standoff -2.8, extent 3.75,0.75 4.25,1.25
3D body: height 6, standoff -2.8, extent 5.75,-1.25 6.25,-0.75
3D body: height 6, standoff -2.8, extent 5.75,0.75 6.25,1.25
3D body: height 6, standoff -2.8, extent 7.75,-1.25 8.25,-0.75
3D body: height 6, standoff -2.8, extent 7.75,0.75 8.25,1.25
3D body: height 6, standoff -2.8, extent 9.75,-1.25 10.25,-0.75
3D body: height 6, standoff -2.8, extent 9.75,0.75 10.25,1.25
3D body: height 6, standoff -2.8, extent 11.75,-1.25 12.25,-0.75
3D body: height 6, standoff -2.8, extent 11.75,0.75 12.25,1.25
3D body: height 6, standoff -2.8, extent 13.75,-1.25 14.25,-0.75
3D body: height 6, standoff -2.8, extent 13.75,0.75 14.25,1.25
3D body: height 6, standoff -2.8, extent 15.75,-1.25 16.25,-0.75
3D body: height 6, standoff -2.8, extent 15.75,0.75 16.25,1.25
3D body: height 6, standoff -2.8, extent 17.75,-1.25 18.25,-0.75
3D body: height 6, standoff -2.8, extent 17.75,0.75 18.25,1.25
3D body: height 6, standoff -2.8, extent 19.75,-1.25 20.25,-0.75
3D body: height 6, standoff -2.8, extent 19.75,0.75 20.25,1.25
3D body: height 6, standoff -2.8, extent 21.75,-1.25 22.25,-0.75
3D body: height 6, standoff -2.8, extent 21.75,0.75 22.25,1.25
3D body: height 6, standoff -2.8, extent 23.75,-1.25 24.25,-0.75
3D body: height 6, standoff -2.8, extent 23.75,0.75 24.25,1.25

## PLMD40S [mm]
pads (40):
  rect 1.4x1.4 hole 0.9: 1(0,-1)
  round 1.4 hole 0.9: 2(0,1) 3(2,-1) 4(2,1) 5(4,-1) 6(4,1) 7(6,-1) 8(6,1) 9(8,-1) 10(8,1) 11(10,-1) 12(10,1) 13(12,-1) 14(12,1) 15(14,-1) 16(14,1) 17(16,-1) 18(16,1) 19(18,-1) 20(18,1) 21(20,-1) 22(20,1) 23(22,-1) 24(22,1) 25(24,-1) 26(24,1) 27(26,-1) 28(26,1) 29(28,-1) 30(28,1) 31(30,-1) 32(30,1) 33(32,-1) 34(32,1) 35(34,-1) 36(34,1) 37(36,-1) 38(36,1) 39(38,-1) 40(38,1)
TopOverlay:
  lines w0.254: -1,-2 39,-2 39,2 -1,2 -1,-2
3D body: height 2, standoff 0, extent -1,-2 39,2
3D body: height 6, standoff -2.8, extent -0.25,0.75 0.25,1.25
3D body: height 6, standoff -2.8, extent -0.25,-1.25 0.25,-0.75
3D body: height 6, standoff -2.8, extent 1.75,-1.25 2.25,-0.75
3D body: height 6, standoff -2.8, extent 1.75,0.75 2.25,1.25
3D body: height 6, standoff -2.8, extent 3.75,-1.25 4.25,-0.75
3D body: height 6, standoff -2.8, extent 3.75,0.75 4.25,1.25
3D body: height 6, standoff -2.8, extent 5.75,-1.25 6.25,-0.75
3D body: height 6, standoff -2.8, extent 5.75,0.75 6.25,1.25
3D body: height 6, standoff -2.8, extent 7.75,-1.25 8.25,-0.75
3D body: height 6, standoff -2.8, extent 7.75,0.75 8.25,1.25
3D body: height 6, standoff -2.8, extent 9.75,-1.25 10.25,-0.75
3D body: height 6, standoff -2.8, extent 9.75,0.75 10.25,1.25
3D body: height 6, standoff -2.8, extent 11.75,-1.25 12.25,-0.75
3D body: height 6, standoff -2.8, extent 11.75,0.75 12.25,1.25
3D body: height 6, standoff -2.8, extent 13.75,-1.25 14.25,-0.75
3D body: height 6, standoff -2.8, extent 13.75,0.75 14.25,1.25
3D body: height 6, standoff -2.8, extent 15.75,-1.25 16.25,-0.75
3D body: height 6, standoff -2.8, extent 15.75,0.75 16.25,1.25
3D body: height 6, standoff -2.8, extent 17.75,-1.25 18.25,-0.75
3D body: height 6, standoff -2.8, extent 17.75,0.75 18.25,1.25
3D body: height 6, standoff -2.8, extent 19.75,-1.25 20.25,-0.75
3D body: height 6, standoff -2.8, extent 19.75,0.75 20.25,1.25
3D body: height 6, standoff -2.8, extent 21.75,-1.25 22.25,-0.75
3D body: height 6, standoff -2.8, extent 21.75,0.75 22.25,1.25
3D body: height 6, standoff -2.8, extent 23.75,-1.25 24.25,-0.75
3D body: height 6, standoff -2.8, extent 23.75,0.75 24.25,1.25
3D body: height 6, standoff -2.8, extent 25.75,0.75 26.25,1.25
3D body: height 6, standoff -2.8, extent 25.75,-1.25 26.25,-0.75
3D body: height 6, standoff -2.8, extent 27.75,0.75 28.25,1.25
3D body: height 6, standoff -2.8, extent 27.75,-1.25 28.25,-0.75
3D body: height 6, standoff -2.8, extent 29.75,0.75 30.25,1.25
3D body: height 6, standoff -2.8, extent 29.75,-1.25 30.25,-0.75
3D body: height 6, standoff -2.8, extent 31.75,0.75 32.25,1.25
3D body: height 6, standoff -2.8, extent 31.75,-1.25 32.25,-0.75
3D body: height 6, standoff -2.8, extent 33.75,0.75 34.25,1.25
3D body: height 6, standoff -2.8, extent 33.75,-1.25 34.25,-0.75
3D body: height 6, standoff -2.8, extent 35.75,0.75 36.25,1.25
3D body: height 6, standoff -2.8, extent 35.75,-1.25 36.25,-0.75
3D body: height 6, standoff -2.8, extent 37.75,0.75 38.25,1.25
3D body: height 6, standoff -2.8, extent 37.75,-1.25 38.25,-0.75